# Altium footprint library PCB - LEADLESS - DFN - 3PEAK DF9 DFN4x4-10-A.PcbLib: 1 footprints
Each footprint in its own frame and in the unit in brackets; x right, y up, seen from the top. Pads: shape width x height; smd on the part's side, far side on the other; paste and mask are expansions set on the pad; w line width, h text height; cw(c..) or ccw(c..) is an arc to the next point about the centre after c.
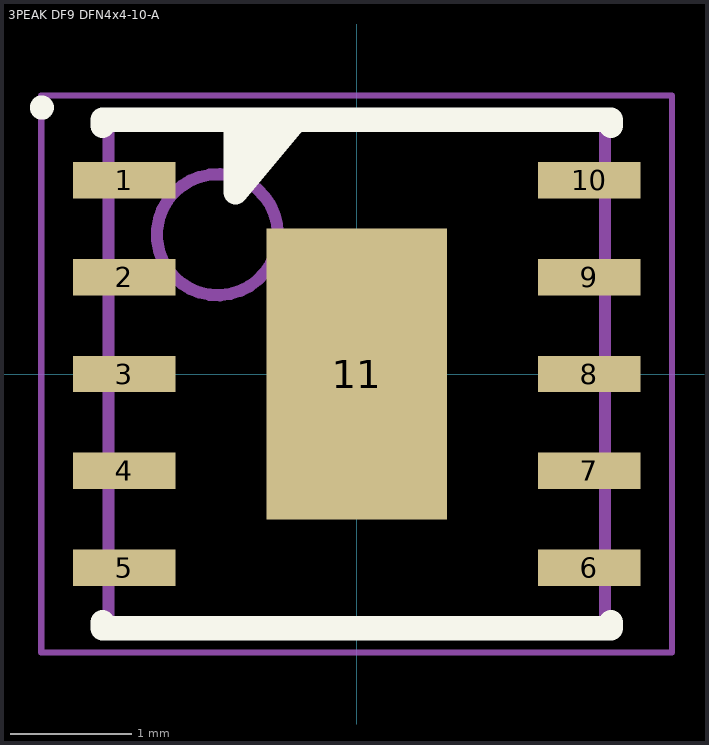
[diagram p0: the footprint, top view; thin cyan lines are the x and y axes]

## 3PEAK DF9 DFN4x4-10-A [mm] "DFN, 10-Leads, Body 4.00x4.00mm, Pitch 0.80mm, Thermal Pad 2.40x1.49mm"
height 0.8
pads (11):
  rect 0.85x0.3 smd: 1(-1.92,1.6) 2(-1.92,0.8) 3(-1.92,0) 4(-1.92,-0.8) 5(-1.92,-1.6) 6(1.92,-1.6) 7(1.92,-0.8) 8(1.92,0) 9(1.92,0.8) 10(1.92,1.6)
  rect 1.49x2.4 smd: 11(0,0)
Top Overlay:
  circle w0.1: c-2.6,2.2 r0.05
  region: -1,1.5 -1,2.1 -0.5,2.1
  lines w0.2: -2.1,-2.05 -2.1,-2.1 2.1,-2.1 2.1,-2.05 ; -2.1,2.05 -2.1,2.1 2.1,2.1 2.1,2.05 ; -1,2.1 -1,1.5 -0.5,2.1
Mechanical 13:
  circle w0.1: c-1.15,1.15 r0.5
  lines w0.1: -2.05,-2.05 2.05,-2.05 2.05,2.05 -2.05,2.05 -2.05,-2.05
Mechanical 15:
  lines w0.05: -2.605,-2.3 2.605,-2.3 2.605,2.3 -2.605,2.3 -2.605,-2.3
  lines w0.1: -0.5,0 0.5,0 ; 0,-0.5 0,0.5
3D body "3PEAK DF9 DFN4x4-10-A.step": height 0.8, standoff 0, extent -2.051,-2.05 2.051,2.05